# Altium schematic symbol library 4WD_ARDUINO_PCB_QINHE.SCHLIB: 20 symbols
Pins are listed as number, name and electrical type; pins without a type are passive.

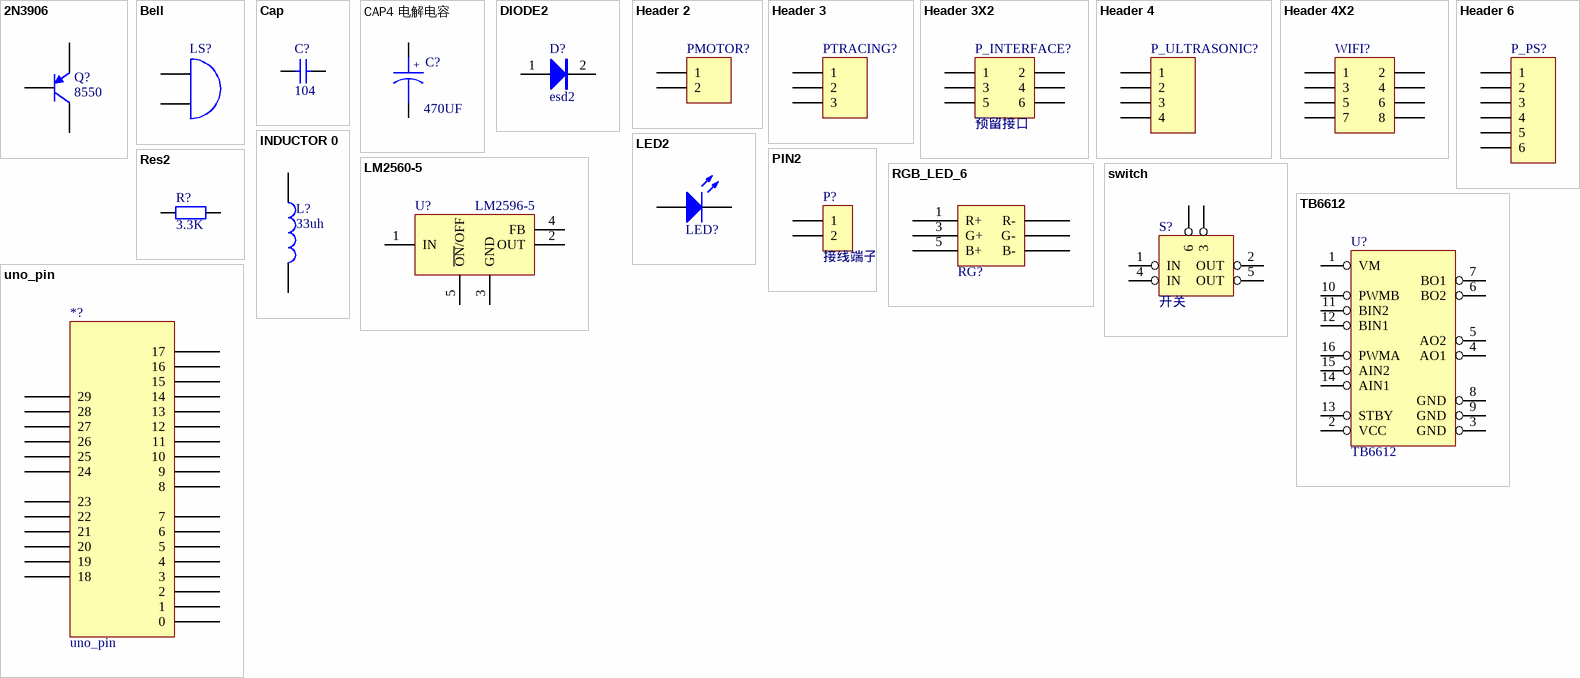
[diagram p0: symbols 2N3906 to uno_pin]

## 2N3906
designator Q?, comment 8550
PNP General Purpose Amplifier; Published: 8-Jun-2000; LatestRevisionDate: 15-Jan-2003; LatestRevisionNote: PCB Footprint 'BCY-W3/D4.7' replaced; DatasheetVersion: 1997; PackageVersion: Sep-1998; PackageReference: TO-92A; Publisher: Altium Limited; PackageDescription: TO, Flat Index; 3 In-Line, Axial Leads; Body Dia. 4.5mm; Leads 0.51 x 0.48 mm (max); ComponentLink1Description: Manufacturer Link; ComponentLink1URL: http://www.fairchildsemi.com/; ComponentLink2Description: Datasheet; ComponentLink2URL: http://www.fairchildsemi.com/ds/2N%2F2N3906.pdf
footprint TO-92A (TO, Flat Index; 3 In-Line, Axial Leads; Body Dia. 4.5mm; Leads 0.51 x 0.48 mm (max))
simulation model 2N3906 (PNP)
signal-integrity model 2N3906
pins: 1 B, 2 E, 3 C

## Bell
designator LS?  (value not drawn)
Electrical Bell; Published: 24-Mar-1999; LatestRevisionDate: 17-Jul-2002; LatestRevisionNote: Re-released for DXP Platform.; PackageReference: PIN2; Publisher: Altium Limited
footprint BEEP 5x9x5.5 (5*9*5.5mm(脚距,直径,高度))
pins: 1 A, 2 B

## Cap
designator C?  value 104  (hidden comment: Cap)
Capacitor; Published: 8-Jun-2000; LatestRevisionDate: 17-Jul-2002; LatestRevisionNote: Re-released for DXP Platform.; PackageReference: RAD-0.3; Publisher: Altium Limited
simulation model CAP (Capacitor)
signal-integrity model Cap
footprint C 0603_L (无极性贴片电容)
pins: 1, 2

## CAP4 电解电容
designator C?  (value not drawn)
Capacitor
footprint CAP6.3 (直径6.3mm（蒜米工坊）)
pins: 1, 2
text: +; 470UF

## DIODE2
designator D?, comment esd2
footprint LC-SMB(DO-214AA)_S2
pins: 1, 2

## Header 2
designator PMOTOR?  (value not drawn)
Header, 2-Pin; LatestRevisionDate: 17-Jul-2002; LatestRevisionNote: Re-released for DXP Platform.; Publisher: Altium Limited
signal-integrity model Connector
footprint MX 1.25-WI-2P (长：4.25mm，宽：1.8mm，高：3.3mm)
pins: 1, 2

## Header 3
designator PTRACING?  (value not drawn)
Header, 3-Pin; LatestRevisionDate: 17-Jul-2002; LatestRevisionNote: Re-released for DXP Platform.; Publisher: Altium Limited
signal-integrity model Connector
footprint XH2.54-WI-3P (接插件，3P)
pins: 1, 2, 3

## Header 3X2
designator P_INTERFACE?, comment 预留接口
Header, 3-Pin, Dual row; LatestRevisionDate: 17-Jul-2002; LatestRevisionNote: Re-released for DXP Platform.; Publisher: Altium Limited
signal-integrity model Connector
footprint HDR2.54-LI-2x3P (双排排针，3x2脚)
pins: 1, 2, 3, 4, 5, 6

## Header 4
designator P_ULTRASONIC?  (value not drawn)
Header, 4-Pin; LatestRevisionDate: 17-Jul-2002; LatestRevisionNote: Re-released for DXP Platform.; Publisher: Altium Limited
signal-integrity model Connector
footprint HDR2.54-WI-4P (弯脚排针，4脚)
pins: 1, 2, 3, 4

## Header 4X2
designator WIFI?  (value not drawn)
Header, 4-Pin, Dual row; LatestRevisionDate: 17-Jul-2002; LatestRevisionNote: Re-released for DXP Platform.; Publisher: Altium Limited
signal-integrity model Connector
footprint HDR2.54-LI-2x4P (双排排针，4x2脚)
pins: 1, 2, 3, 4, 5, 6, 7, 8

## Header 6
designator P_PS?  (value not drawn)
Header, 6-Pin; LatestRevisionDate: 17-Jul-2002; LatestRevisionNote: Re-released for DXP Platform.; Publisher: Altium Limited
signal-integrity model Connector
footprint HDR2.54-LI-6P (排针，6脚)
pins: 1, 2, 3, 4, 5, 6

## INDUCTOR 0
designator L?  (value not drawn)
footprint CD73 (7.8*7*3.5mm（长宽高）)
pins: 1, 2
text: 33uh

## LED2
designator LED?, comment LED3  (value not drawn)
Typical RED, GREEN, YELLOW, AMBER GaAs LED; Published: 8-Jun-2000; LatestRevisionDate: 17-Jul-2002; LatestRevisionNote: Re-released for DXP Platform.; PackageVersion: Feb-2002; PackageReference: 3.2X1.6X1.1; Publisher: Altium Limited; PackageDescription: SM LED; 2 Flat Leads
footprint Diode_0805
pins: 1, 2

## LM2560-5
designator U?, comment LM2596-5
footprint TO-263-5 (LM2596封装)
pins: 1 IN, 2 OUT, 3 GND, 4 FB, 5 ~{ON}/OFF

## PIN2
designator P?, comment 接线端子
footprint XH2.54-WI-2P (接插件，2P)
pins: 1, 2

## Res2
designator R?  value 3.3K  (hidden comment: Res2)
Resistor; Published: 8-Jun-2000; LatestRevisionDate: 17-Jul-2002; LatestRevisionNote: Re-released for DXP Platform.; PackageReference: AXIAL-0.4; Publisher: Altium Limited; PackageDescription: Axial Device, Thru-Hole; 2 Leads; 0.4 in Pin Spacing
footprint R 0603_L (1/10W贴片电阻)
pins: 1, 2

## RGB_LED_6
designator RG?  (value not drawn)
footprint SOP6
pins: 1 R+ (power), 2 R- (power), 3 G+ (power), 4 G- (power), 5 B+ (power), 6 B- (power)

## switch
designator S?, comment 开关
footprint SWITCH_SELFLOCKING
pins: 1 IN, 2 OUT, 3, 4 IN, 5 OUT, 6

## TB6612
designator U?
footprint TB6612
pins: 1 VM, 2 VCC, 3 GND, 4 AO1, 5 AO2, 6 BO2, 7 BO1, 8 GND, 9 GND, 10 PWMB, 11 BIN2, 12 BIN1, 13 STBY, 14 AIN1, 15 AIN2, 16 PWMA

## uno_pin
designator *?
pins: 0, 1, 2, 3, 4, 5, 6, 7, 8, 9, 10, 11, 12, 13, 14, 15, 16, 17, 18, 19, 20, 21, 22, 23, 24, 25, 26, 27, 28, 29